# Altium integrated library Capacitors$.IntLib: 601 symbols (part 3 of 4)
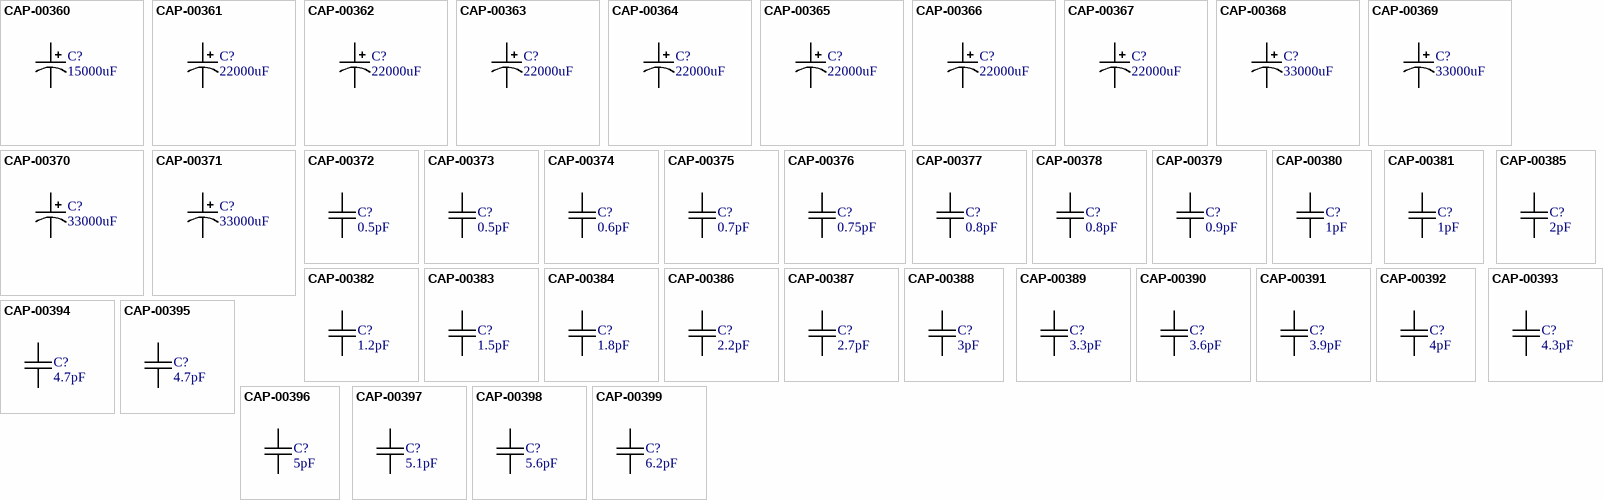
[diagram p17: symbols CAP-00360 to CAP-00399]

## CAP-00383
designator C?, comment 1.5pF
CAP, 1.5pF, ±0.1pF, 50V, C0G, 0603; Part Number: CAP-00383; Manufacturer: Murata; Manufacturer PN: GRM1885C1H1R5BA01D; Capacitance: 1.5pF; Tolerance: ±0.1pF; Voltage Rating: 50V; Type: C0G
footprint chip_0603
pins: 1, 2

## CAP-00384
designator C?, comment 1.8pF
CAP, 1.8pF, ±0.1pF, 50V, C0G, 0603; Part Number: CAP-00384; Manufacturer: Murata; Manufacturer PN: GRM1885C1H1R8BA01D; Capacitance: 1.8pF; Tolerance: ±0.1pF; Voltage Rating: 50V; Type: C0G
footprint chip_0603
pins: 1, 2

## CAP-00385
designator C?, comment 2pF
CAP, 2pF, ±0.1pF, 50V, C0G, 0603; Part Number: CAP-00385; Manufacturer: Murata; Manufacturer PN: GRM1885C1H2R0BA01D; Capacitance: 2pF; Tolerance: ±0.1pF; Voltage Rating: 50V; Type: C0G
footprint chip_0603
pins: 1, 2

## CAP-00386
designator C?, comment 2.2pF
CAP, 2.2pF, ±0.1pF, 50V, C0G, 0603; Part Number: CAP-00386; Manufacturer: Murata; Manufacturer PN: GRM1885C1H2R2BA01D; Capacitance: 2.2pF; Tolerance: ±0.1pF; Voltage Rating: 50V; Type: C0G
footprint chip_0603
pins: 1, 2

## CAP-00387
designator C?, comment 2.7pF
CAP, 2.7pF, ±0.1pF, 50V, C0G, 0603; Part Number: CAP-00387; Manufacturer: Murata; Manufacturer PN: GRM1885C1H2R7BA01D; Capacitance: 2.7pF; Tolerance: ±0.1pF; Voltage Rating: 50V; Type: C0G
footprint chip_0603
pins: 1, 2

## CAP-00388
designator C?, comment 3pF
CAP, 3pF, ±0.1pF, 50V, C0G, 0603; Part Number: CAP-00388; Manufacturer: Murata; Manufacturer PN: GRM1885C1H3R0BA01D; Capacitance: 3pF; Tolerance: ±0.1pF; Voltage Rating: 50V; Type: C0G
footprint chip_0603
pins: 1, 2

## CAP-00389
designator C?, comment 3.3pF
CAP, 3.3pF, ±0.1pF, 50V, C0G, 0603; Part Number: CAP-00389; Manufacturer: Murata; Manufacturer PN: GRM1885C1H3R3BA01D; Capacitance: 3.3pF; Tolerance: ±0.1pF; Voltage Rating: 50V; Type: C0G
footprint chip_0603
pins: 1, 2

## CAP-00390
designator C?, comment 3.6pF
CAP, 3.6pF, ±0.1pF, 50V, C0G, 0603; Part Number: CAP-00390; Manufacturer: Murata; Manufacturer PN: GRM1885C1H3R6BA01D; Capacitance: 3.6pF; Tolerance: ±0.1pF; Voltage Rating: 50V; Type: C0G
footprint chip_0603
pins: 1, 2

## CAP-00391
designator C?, comment 3.9pF
CAP, 3.9pF, ±0.1pF, 50V, C0G, 0603; Part Number: CAP-00391; Manufacturer: Murata; Manufacturer PN: GRM1885C1H3R9BA01D; Capacitance: 3.9pF; Tolerance: ±0.1pF; Voltage Rating: 50V; Type: C0G
footprint chip_0603
pins: 1, 2

## CAP-00392
designator C?, comment 4pF
CAP, 4pF, ±0.1pF, 50V, C0G, 0603; Part Number: CAP-00392; Manufacturer: Murata; Manufacturer PN: GRM1885C1H4R0BA01D; Capacitance: 4pF; Tolerance: ±0.1pF; Voltage Rating: 50V; Type: C0G
footprint chip_0603
pins: 1, 2

## CAP-00393
designator C?, comment 4.3pF
CAP, 4.3pF, ±0.1pF, 50V, C0G, 0603; Part Number: CAP-00393; Manufacturer: Murata; Manufacturer PN: GRM1885C1H4R3BA01D; Capacitance: 4.3pF; Tolerance: ±0.1pF; Voltage Rating: 50V; Type: C0G
footprint chip_0603
pins: 1, 2

## CAP-00394
designator C?, comment 4.7pF
CAP, 4.7pF, ±0.1pF, 100V, C0G, 0603; Part Number: CAP-00394; Manufacturer: Murata; Manufacturer PN: GRM1885C2A4R7BA01D; Capacitance: 4.7pF; Tolerance: ±0.1pF; Voltage Rating: 100V; Type: C0G
footprint chip_0603
pins: 1, 2

## CAP-00395
designator C?, comment 4.7pF
CAP, 4.7pF, ±0.1pF, 50V, C0G, 0603; Part Number: CAP-00395; Manufacturer: Murata; Manufacturer PN: GRM1885C1H4R7BA01D; Capacitance: 4.7pF; Tolerance: ±0.1pF; Voltage Rating: 50V; Type: C0G
footprint chip_0603
pins: 1, 2

## CAP-00396
designator C?, comment 5pF
CAP, 5pF, ±0.1pF, 50V, C0G, 0603; Part Number: CAP-00396; Manufacturer: Murata; Manufacturer PN: GRM1885C1H5R0BA01D; Capacitance: 5pF; Tolerance: ±0.1pF; Voltage Rating: 50V; Type: C0G
footprint chip_0603
pins: 1, 2

## CAP-00397
designator C?, comment 5.1pF
CAP, 5.1pF, ±0.1pF, 50V, C0G, 0603; Part Number: CAP-00397; Manufacturer: Murata; Manufacturer PN: GRM1885C1H5R1BA01D; Capacitance: 5.1pF; Tolerance: ±0.1pF; Voltage Rating: 50V; Type: C0G
footprint chip_0603
pins: 1, 2

## CAP-00398
designator C?, comment 5.6pF
CAP, 5.6pF, ±0.1pF, 50V, C0G, 0603; Part Number: CAP-00398; Manufacturer: Murata; Manufacturer PN: GRM1885C1H5R6BA01D; Capacitance: 5.6pF; Tolerance: ±0.1pF; Voltage Rating: 50V; Type: C0G
footprint chip_0603
pins: 1, 2

## CAP-00399
designator C?, comment 6.2pF
CAP, 6.2pF, ±0.1pF, 50V, C0G, 0603; Part Number: CAP-00399; Manufacturer: Murata; Manufacturer PN: GRM1885C1H6R2BA01D; Capacitance: 6.2pF; Tolerance: ±0.1pF; Voltage Rating: 50V; Type: C0G
footprint chip_0603
pins: 1, 2

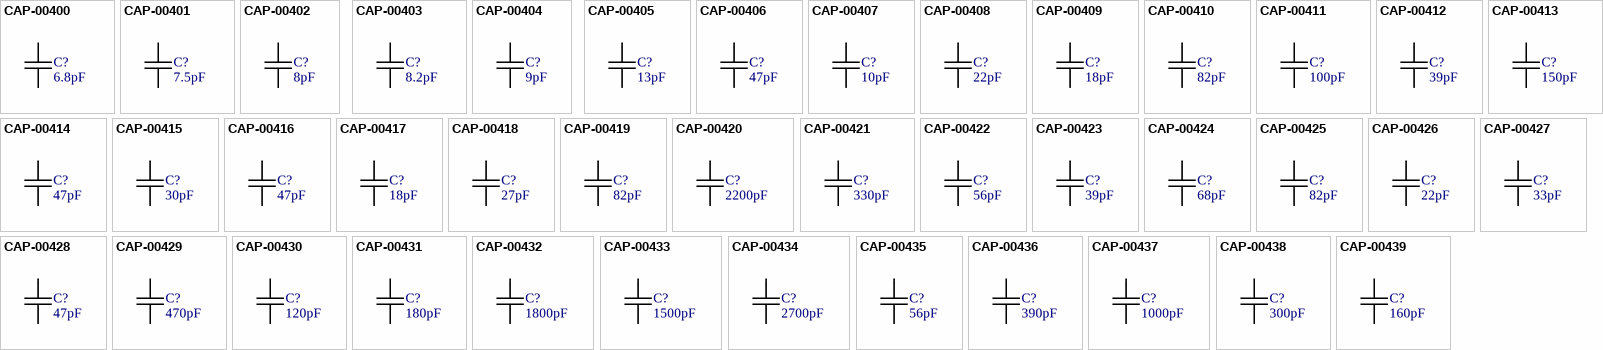
[diagram p10: symbols CAP-00400 to CAP-00439]

## CAP-00400
designator C?, comment 6.8pF
CAP, 6.8pF, ±0.1pF, 50V, C0G, 0603; Part Number: CAP-00400; Manufacturer: Murata; Manufacturer PN: GRM1885C1H6R8BA01D; Capacitance: 6.8pF; Tolerance: ±0.1pF; Voltage Rating: 50V; Type: C0G
footprint chip_0603
pins: 1, 2

## CAP-00401
designator C?, comment 7.5pF
CAP, 7.5pF, ±0.1pF, 50V, C0G, 0603; Part Number: CAP-00401; Manufacturer: Murata; Manufacturer PN: GRM1885C1H7R5BA01D; Capacitance: 7.5pF; Tolerance: ±0.1pF; Voltage Rating: 50V; Type: C0G
footprint chip_0603
pins: 1, 2

## CAP-00402
designator C?, comment 8pF
CAP, 8pF, ±0.1pF, 50V, C0G, 0603; Part Number: CAP-00402; Manufacturer: Murata; Manufacturer PN: GRM1885C1H8R0BA01D; Capacitance: 8pF; Tolerance: ±0.1pF; Voltage Rating: 50V; Type: C0G
footprint chip_0603
pins: 1, 2

## CAP-00403
designator C?, comment 8.2pF
CAP, 8.2pF, ±0.1pF, 50V, C0G, 0603; Part Number: CAP-00403; Manufacturer: Murata; Manufacturer PN: GRM1885C1H8R2BA01D; Capacitance: 8.2pF; Tolerance: ±0.1pF; Voltage Rating: 50V; Type: C0G
footprint chip_0603
pins: 1, 2

## CAP-00404
designator C?, comment 9pF
CAP, 9pF, ±0.1pF, 50V, C0G, 0603; Part Number: CAP-00404; Manufacturer: Murata; Manufacturer PN: GRM1885C1H9R0BA01D; Capacitance: 9pF; Tolerance: ±0.1pF; Voltage Rating: 50V; Type: C0G
footprint chip_0603
pins: 1, 2

## CAP-00405
designator C?, comment 13pF
CAP, 13pF, ±2%, 50V, C0G, 0603; Part Number: CAP-00405; Manufacturer: Murata; Manufacturer PN: GRM1885C1H130GA01D; Capacitance: 13pF; Tolerance: ±2%; Voltage Rating: 50V; Type: C0G
footprint chip_0603
pins: 1, 2

## CAP-00406
designator C?, comment 47pF
CAP, 47pF, ±2%, 50V, C0G, 0603; Part Number: CAP-00406; Manufacturer: Murata; Manufacturer PN: GRM1885C1H470GA01J; Capacitance: 47pF; Tolerance: ±2%; Voltage Rating: 50V; Type: C0G
footprint chip_0603
pins: 1, 2

## CAP-00407
designator C?, comment 10pF
CAP, 10pF, ±1%, 50V, C0G, 0603; Part Number: CAP-00407; Manufacturer: Murata; Manufacturer PN: GRM1885C1H100FA01D; Capacitance: 10pF; Tolerance: ±1%; Voltage Rating: 50V; Type: C0G
footprint chip_0603
pins: 1, 2

## CAP-00408
designator C?, comment 22pF
CAP, 22pF, ±2%, 50V, C0G, 0603; Part Number: CAP-00408; Manufacturer: Murata; Manufacturer PN: GRM1885C1H220GA01D; Capacitance: 22pF; Tolerance: ±2%; Voltage Rating: 50V; Type: C0G
footprint chip_0603
pins: 1, 2

## CAP-00409
designator C?, comment 18pF
CAP, 18pF, ±2%, 50V, C0G, 0603; Part Number: CAP-00409; Manufacturer: Murata; Manufacturer PN: GRM1885C1H180GA01D; Capacitance: 18pF; Tolerance: ±2%; Voltage Rating: 50V; Type: C0G
footprint chip_0603
pins: 1, 2

## CAP-00410
designator C?, comment 82pF
CAP, 82pF, ±2%, 50V, C0G, 0603; Part Number: CAP-00410; Manufacturer: Murata; Manufacturer PN: GRM1885C1H820GA01D; Capacitance: 82pF; Tolerance: ±2%; Voltage Rating: 50V; Type: C0G
footprint chip_0603
pins: 1, 2

## CAP-00411
designator C?, comment 100pF
CAP, 100pF, ±2%, 50V, C0G, 0603; Part Number: CAP-00411; Manufacturer: Murata; Manufacturer PN: GRM1885C1H101GA01D; Capacitance: 100pF; Tolerance: ±2%; Voltage Rating: 50V; Type: C0G
footprint chip_0603
pins: 1, 2

## CAP-00412
designator C?, comment 39pF
CAP, 39pF, ±2%, 50V, C0G, 0603; Part Number: CAP-00412; Manufacturer: Murata; Manufacturer PN: GRM1885C1H390GA01D; Capacitance: 39pF; Tolerance: ±2%; Voltage Rating: 50V; Type: C0G
footprint chip_0603
pins: 1, 2

## CAP-00413
designator C?, comment 150pF
CAP, 150pF, ±2%, 50V, C0G, 0603; Part Number: CAP-00413; Manufacturer: Murata; Manufacturer PN: GRM1885C1H151GA01D; Capacitance: 150pF; Tolerance: ±2%; Voltage Rating: 50V; Type: C0G
footprint chip_0603
pins: 1, 2

## CAP-00414
designator C?, comment 47pF
CAP, 47pF, ±2%, 50V, C0G, 0603; Part Number: CAP-00414; Manufacturer: Murata; Manufacturer PN: GRM1885C1H470GA01D; Capacitance: 47pF; Tolerance: ±2%; Voltage Rating: 50V; Type: C0G
footprint chip_0603
pins: 1, 2

## CAP-00415
designator C?, comment 30pF
CAP, 30pF, ±2%, 50V, C0G, 0603; Part Number: CAP-00415; Manufacturer: Murata; Manufacturer PN: GRM1885C1H300GA01D; Capacitance: 30pF; Tolerance: ±2%; Voltage Rating: 50V; Type: C0G
footprint chip_0603
pins: 1, 2

## CAP-00416
designator C?, comment 47pF
CAP, 47pF, ±1%, 50V, C0G, 0603; Part Number: CAP-00416; Manufacturer: Murata; Manufacturer PN: GRM1885C1H470FA01J; Capacitance: 47pF; Tolerance: ±1%; Voltage Rating: 50V; Type: C0G
footprint chip_0603
pins: 1, 2

## CAP-00417
designator C?, comment 18pF
CAP, 18pF, ±1%, 50V, C0G, 0603; Part Number: CAP-00417; Manufacturer: Murata; Manufacturer PN: GRM1885C1H180FA01J; Capacitance: 18pF; Tolerance: ±1%; Voltage Rating: 50V; Type: C0G
footprint chip_0603
pins: 1, 2

## CAP-00418
designator C?, comment 27pF
CAP, 27pF, ±1%, 50V, C0G, 0603; Part Number: CAP-00418; Manufacturer: Murata; Manufacturer PN: GRM1885C1H270FA01J; Capacitance: 27pF; Tolerance: ±1%; Voltage Rating: 50V; Type: C0G
footprint chip_0603
pins: 1, 2

## CAP-00419
designator C?, comment 82pF
CAP, 82pF, ±1%, 50V, C0G, 0603; Part Number: CAP-00419; Manufacturer: Murata; Manufacturer PN: GRM1885C1H820FA01J; Capacitance: 82pF; Tolerance: ±1%; Voltage Rating: 50V; Type: C0G
footprint chip_0603
pins: 1, 2

## CAP-00420
designator C?, comment 2200pF
CAP, 2200pF, ±2%, 50V, C0G, 0603; Part Number: CAP-00420; Manufacturer: Murata; Manufacturer PN: GRM1885C1H222GA01D; Capacitance: 2200pF; Tolerance: ±2%; Voltage Rating: 50V; Type: C0G
footprint chip_0603
pins: 1, 2

## CAP-00421
designator C?, comment 330pF
CAP, 330pF, ±2%, 50V, C0G, 0603; Part Number: CAP-00421; Manufacturer: Murata; Manufacturer PN: GRM1885C1H331GA01D; Capacitance: 330pF; Tolerance: ±2%; Voltage Rating: 50V; Type: C0G
footprint chip_0603
pins: 1, 2

## CAP-00422
designator C?, comment 56pF
CAP, 56pF, ±1%, 50V, C0G, 0603; Part Number: CAP-00422; Manufacturer: Murata; Manufacturer PN: GRM1885C1H560FA01D; Capacitance: 56pF; Tolerance: ±1%; Voltage Rating: 50V; Type: C0G
footprint chip_0603
pins: 1, 2

## CAP-00423
designator C?, comment 39pF
CAP, 39pF, ±1%, 50V, C0G, 0603; Part Number: CAP-00423; Manufacturer: Murata; Manufacturer PN: GRM1885C1H390FA01D; Capacitance: 39pF; Tolerance: ±1%; Voltage Rating: 50V; Type: C0G
footprint chip_0603
pins: 1, 2

## CAP-00424
designator C?, comment 68pF
CAP, 68pF, ±1%, 50V, C0G, 0603; Part Number: CAP-00424; Manufacturer: Murata; Manufacturer PN: GRM1885C1H680FA01D; Capacitance: 68pF; Tolerance: ±1%; Voltage Rating: 50V; Type: C0G
footprint chip_0603
pins: 1, 2

## CAP-00425
designator C?, comment 82pF
CAP, 82pF, ±1%, 50V, C0G, 0603; Part Number: CAP-00425; Manufacturer: Murata; Manufacturer PN: GRM1885C1H820FA01D; Capacitance: 82pF; Tolerance: ±1%; Voltage Rating: 50V; Type: C0G
footprint chip_0603
pins: 1, 2

## CAP-00426
designator C?, comment 22pF
CAP, 22pF, ±1%, 50V, C0G, 0603; Part Number: CAP-00426; Manufacturer: Murata; Manufacturer PN: GRM1885C1H220FA01D; Capacitance: 22pF; Tolerance: ±1%; Voltage Rating: 50V; Type: C0G
footprint chip_0603
pins: 1, 2

## CAP-00427
designator C?, comment 33pF
CAP, 33pF, ±1%, 50V, C0G, 0603; Part Number: CAP-00427; Manufacturer: Murata; Manufacturer PN: GRM1885C1H330FA01D; Capacitance: 33pF; Tolerance: ±1%; Voltage Rating: 50V; Type: C0G
footprint chip_0603
pins: 1, 2

## CAP-00428
designator C?, comment 47pF
CAP, 47pF, ±1%, 50V, C0G, 0603; Part Number: CAP-00428; Manufacturer: Murata; Manufacturer PN: GRM1885C1H470FA01D; Capacitance: 47pF; Tolerance: ±1%; Voltage Rating: 50V; Type: C0G
footprint chip_0603
pins: 1, 2

## CAP-00429
designator C?, comment 470pF
CAP, 470pF, ±2%, 50V, C0G, 0603; Part Number: CAP-00429; Manufacturer: Murata; Manufacturer PN: GRM1885C1H471GA01D; Capacitance: 470pF; Tolerance: ±2%; Voltage Rating: 50V; Type: C0G
footprint chip_0603
pins: 1, 2

## CAP-00430
designator C?, comment 120pF
CAP, 120pF, ±2%, 50V, C0G, 0603; Part Number: CAP-00430; Manufacturer: Murata; Manufacturer PN: GRM1885C1H121GA01D; Capacitance: 120pF; Tolerance: ±2%; Voltage Rating: 50V; Type: C0G
footprint chip_0603
pins: 1, 2

## CAP-00431
designator C?, comment 180pF
CAP, 180pF, ±2%, 50V, C0G, 0603; Part Number: CAP-00431; Manufacturer: Murata; Manufacturer PN: GRM1885C1H181GA01D; Capacitance: 180pF; Tolerance: ±2%; Voltage Rating: 50V; Type: C0G
footprint chip_0603
pins: 1, 2

## CAP-00432
designator C?, comment 1800pF
CAP, 1800pF, ±2%, 50V, C0G, 0603; Part Number: CAP-00432; Manufacturer: Murata; Manufacturer PN: GRM1885C1H182GA01D; Capacitance: 1800pF; Tolerance: ±2%; Voltage Rating: 50V; Type: C0G
footprint chip_0603
pins: 1, 2

## CAP-00433
designator C?, comment 1500pF
CAP, 1500pF, ±1%, 50V, C0G, 0603; Part Number: CAP-00433; Manufacturer: Murata; Manufacturer PN: GRM1885C1H152FA01D; Capacitance: 1500pF; Tolerance: ±1%; Voltage Rating: 50V; Type: C0G
footprint chip_0603
pins: 1, 2

## CAP-00434
designator C?, comment 2700pF
CAP, 2700pF, ±2%, 50V, C0G, 0603; Part Number: CAP-00434; Manufacturer: Murata; Manufacturer PN: GRM1885C1H272GA01D; Capacitance: 2700pF; Tolerance: ±2%; Voltage Rating: 50V; Type: C0G
footprint chip_0603
pins: 1, 2

## CAP-00435
designator C?, comment 56pF
CAP, 56pF, ±1%, 50V, C0G, 0603; Part Number: CAP-00435; Manufacturer: Murata; Manufacturer PN: GRM1885C1H560FA01J; Capacitance: 56pF; Tolerance: ±1%; Voltage Rating: 50V; Type: C0G
footprint chip_0603
pins: 1, 2

## CAP-00436
designator C?, comment 390pF
CAP, 390pF, ±2%, 50V, C0G, 0603; Part Number: CAP-00436; Manufacturer: Murata; Manufacturer PN: GRM1885C1H391GA01D; Capacitance: 390pF; Tolerance: ±2%; Voltage Rating: 50V; Type: C0G
footprint chip_0603
pins: 1, 2

## CAP-00437
designator C?, comment 1000pF
CAP, 1000pF, ±2%, 50V, C0G, 0603; Part Number: CAP-00437; Manufacturer: Murata; Manufacturer PN: GRM1885C1H102GA01J; Capacitance: 1000pF; Tolerance: ±2%; Voltage Rating: 50V; Type: C0G
footprint chip_0603
pins: 1, 2

## CAP-00438
designator C?, comment 300pF
CAP, 300pF, ±2%, 50V, C0G, 0603; Part Number: CAP-00438; Manufacturer: Murata; Manufacturer PN: GRM1885C1H301GA01D; Capacitance: 300pF; Tolerance: ±2%; Voltage Rating: 50V; Type: C0G
footprint chip_0603
pins: 1, 2

## CAP-00439
designator C?, comment 160pF
CAP, 160pF, ±2%, 50V, C0G, 0603; Part Number: CAP-00439; Manufacturer: Murata; Manufacturer PN: GRM1885C1H161GA01D; Capacitance: 160pF; Tolerance: ±2%; Voltage Rating: 50V; Type: C0G
footprint chip_0603
pins: 1, 2

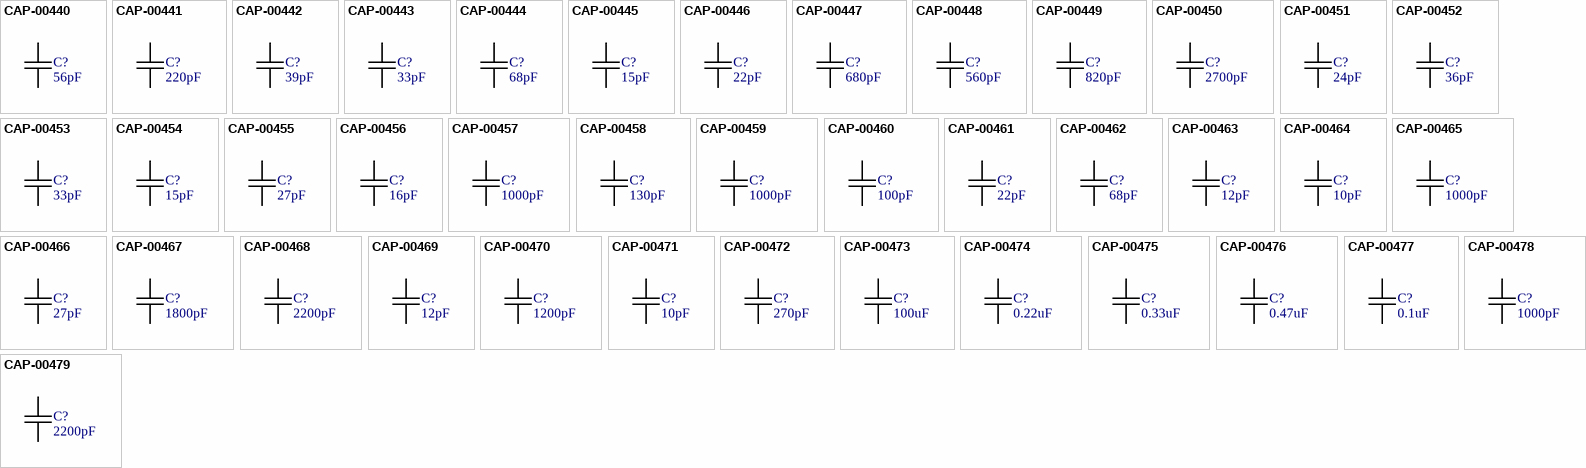
[diagram p11: symbols CAP-00440 to CAP-00479]

## CAP-00440
designator C?, comment 56pF
CAP, 56pF, ±2%, 50V, C0G, 0603; Part Number: CAP-00440; Manufacturer: Murata; Manufacturer PN: GRM1885C1H560GA01D; Capacitance: 56pF; Tolerance: ±2%; Voltage Rating: 50V; Type: C0G
footprint chip_0603
pins: 1, 2

## CAP-00441
designator C?, comment 220pF
CAP, 220pF, ±2%, 50V, C0G, 0603; Part Number: CAP-00441; Manufacturer: Murata; Manufacturer PN: GRM1885C1H221GA01D; Capacitance: 220pF; Tolerance: ±2%; Voltage Rating: 50V; Type: C0G
footprint chip_0603
pins: 1, 2

## CAP-00442
designator C?, comment 39pF
CAP, 39pF, ±1%, 50V, C0G, 0603; Part Number: CAP-00442; Manufacturer: Murata; Manufacturer PN: GRM1885C1H390FA01J; Capacitance: 39pF; Tolerance: ±1%; Voltage Rating: 50V; Type: C0G
footprint chip_0603
pins: 1, 2

## CAP-00443
designator C?, comment 33pF
CAP, 33pF, ±1%, 50V, C0G, 0603; Part Number: CAP-00443; Manufacturer: Murata; Manufacturer PN: GRM1885C1H330FA01J; Capacitance: 33pF; Tolerance: ±1%; Voltage Rating: 50V; Type: C0G
footprint chip_0603
pins: 1, 2

## CAP-00444
designator C?, comment 68pF
CAP, 68pF, ±1%, 50V, C0G, 0603; Part Number: CAP-00444; Manufacturer: Murata; Manufacturer PN: GRM1885C1H680FA01J; Capacitance: 68pF; Tolerance: ±1%; Voltage Rating: 50V; Type: C0G
footprint chip_0603
pins: 1, 2

## CAP-00445
designator C?, comment 15pF
CAP, 15pF, ±1%, 50V, C0G, 0603; Part Number: CAP-00445; Manufacturer: Murata; Manufacturer PN: GRM1885C1H150FA01J; Capacitance: 15pF; Tolerance: ±1%; Voltage Rating: 50V; Type: C0G
footprint chip_0603
pins: 1, 2

## CAP-00446
designator C?, comment 22pF
CAP, 22pF, ±1%, 50V, C0G, 0603; Part Number: CAP-00446; Manufacturer: Murata; Manufacturer PN: GRM1885C1H220FA01J; Capacitance: 22pF; Tolerance: ±1%; Voltage Rating: 50V; Type: C0G
footprint chip_0603
pins: 1, 2

## CAP-00447
designator C?, comment 680pF
CAP, 680pF, ±2%, 50V, C0G, 0603; Part Number: CAP-00447; Manufacturer: Murata; Manufacturer PN: GRM1885C1H681GA01D; Capacitance: 680pF; Tolerance: ±2%; Voltage Rating: 50V; Type: C0G
footprint chip_0603
pins: 1, 2

## CAP-00448
designator C?, comment 560pF
CAP, 560pF, ±2%, 50V, C0G, 0603; Part Number: CAP-00448; Manufacturer: Murata; Manufacturer PN: GRM1885C1H561GA01D; Capacitance: 560pF; Tolerance: ±2%; Voltage Rating: 50V; Type: C0G
footprint chip_0603
pins: 1, 2

## CAP-00449
designator C?, comment 820pF
CAP, 820pF, ±2%, 50V, C0G, 0603; Part Number: CAP-00449; Manufacturer: Murata; Manufacturer PN: GRM1885C1H821GA01J; Capacitance: 820pF; Tolerance: ±2%; Voltage Rating: 50V; Type: C0G
footprint chip_0603
pins: 1, 2

## CAP-00450
designator C?, comment 2700pF
CAP, 2700pF, ±2%, 50V, C0G, 0603; Part Number: CAP-00450; Manufacturer: Murata; Manufacturer PN: GRM1885C1H272GA01J; Capacitance: 2700pF; Tolerance: ±2%; Voltage Rating: 50V; Type: C0G
footprint chip_0603
pins: 1, 2

## CAP-00451
designator C?, comment 24pF
CAP, 24pF, ±2%, 50V, C0G, 0603; Part Number: CAP-00451; Manufacturer: Murata; Manufacturer PN: GRM1885C1H240GA01D; Capacitance: 24pF; Tolerance: ±2%; Voltage Rating: 50V; Type: C0G
footprint chip_0603
pins: 1, 2

## CAP-00452
designator C?, comment 36pF
CAP, 36pF, ±2%, 50V, C0G, 0603; Part Number: CAP-00452; Manufacturer: Murata; Manufacturer PN: GRM1885C1H360GA01D; Capacitance: 36pF; Tolerance: ±2%; Voltage Rating: 50V; Type: C0G
footprint chip_0603
pins: 1, 2

## CAP-00453
designator C?, comment 33pF
CAP, 33pF, ±2%, 50V, C0G, 0603; Part Number: CAP-00453; Manufacturer: Murata; Manufacturer PN: GRM1885C1H330GA01D; Capacitance: 33pF; Tolerance: ±2%; Voltage Rating: 50V; Type: C0G
footprint chip_0603
pins: 1, 2

## CAP-00454
designator C?, comment 15pF
CAP, 15pF, ±2%, 50V, C0G, 0603; Part Number: CAP-00454; Manufacturer: Murata; Manufacturer PN: GRM1885C1H150GA01D; Capacitance: 15pF; Tolerance: ±2%; Voltage Rating: 50V; Type: C0G
footprint chip_0603
pins: 1, 2

## CAP-00455
designator C?, comment 27pF
CAP, 27pF, ±2%, 50V, C0G, 0603; Part Number: CAP-00455; Manufacturer: Murata; Manufacturer PN: GRM1885C1H270GA01D; Capacitance: 27pF; Tolerance: ±2%; Voltage Rating: 50V; Type: C0G
footprint chip_0603
pins: 1, 2

## CAP-00456
designator C?, comment 16pF
CAP, 16pF, ±2%, 50V, C0G, 0603; Part Number: CAP-00456; Manufacturer: Murata; Manufacturer PN: GRM1885C1H160GA01D; Capacitance: 16pF; Tolerance: ±2%; Voltage Rating: 50V; Type: C0G
footprint chip_0603
pins: 1, 2

## CAP-00457
designator C?, comment 1000pF
CAP, 1000pF, ±1%, 50V, C0G, 0603; Part Number: CAP-00457; Manufacturer: Murata; Manufacturer PN: GRM1885C1H102FA01D; Capacitance: 1000pF; Tolerance: ±1%; Voltage Rating: 50V; Type: C0G
footprint chip_0603
pins: 1, 2

## CAP-00458
designator C?, comment 130pF
CAP, 130pF, ±2%, 50V, C0G, 0603; Part Number: CAP-00458; Manufacturer: Murata; Manufacturer PN: GRM1885C1H131GA01D; Capacitance: 130pF; Tolerance: ±2%; Voltage Rating: 50V; Type: C0G
footprint chip_0603
pins: 1, 2

## CAP-00459
designator C?, comment 1000pF
CAP, 1000pF, ±1%, 50V, C0G, 0603; Part Number: CAP-00459; Manufacturer: Murata; Manufacturer PN: GRM1885C1H102FA01J; Capacitance: 1000pF; Tolerance: ±1%; Voltage Rating: 50V; Type: C0G
footprint chip_0603
pins: 1, 2

## CAP-00460
designator C?, comment 100pF
CAP, 100pF, ±2%, 50V, C0G, 0603; Part Number: CAP-00460; Manufacturer: Murata; Manufacturer PN: GRM1885C1H101GA01J; Capacitance: 100pF; Tolerance: ±2%; Voltage Rating: 50V; Type: C0G
footprint chip_0603
pins: 1, 2

## CAP-00461
designator C?, comment 22pF
CAP, 22pF, ±2%, 50V, C0G, 0603; Part Number: CAP-00461; Manufacturer: Murata; Manufacturer PN: GRM1885C1H220GA01J; Capacitance: 22pF; Tolerance: ±2%; Voltage Rating: 50V; Type: C0G
footprint chip_0603
pins: 1, 2

## CAP-00462
designator C?, comment 68pF
CAP, 68pF, ±2%, 50V, C0G, 0603; Part Number: CAP-00462; Manufacturer: Murata; Manufacturer PN: GRM1885C1H680GA01D; Capacitance: 68pF; Tolerance: ±2%; Voltage Rating: 50V; Type: C0G
footprint chip_0603
pins: 1, 2

## CAP-00463
designator C?, comment 12pF
CAP, 12pF, ±2%, 50V, C0G, 0603; Part Number: CAP-00463; Manufacturer: Murata; Manufacturer PN: GRM1885C1H120GA01D; Capacitance: 12pF; Tolerance: ±2%; Voltage Rating: 50V; Type: C0G
footprint chip_0603
pins: 1, 2

## CAP-00464
designator C?, comment 10pF
CAP, 10pF, ±1%, 50V, C0G, 0603; Part Number: CAP-00464; Manufacturer: Murata; Manufacturer PN: GRM1885C1H100FA01J; Capacitance: 10pF; Tolerance: ±1%; Voltage Rating: 50V; Type: C0G
footprint chip_0603
pins: 1, 2

## CAP-00465
designator C?, comment 1000pF
CAP, 1000pF, ±2%, 50V, C0G, 0603; Part Number: CAP-00465; Manufacturer: Murata; Manufacturer PN: GRM1885C1H102GA01D; Capacitance: 1000pF; Tolerance: ±2%; Voltage Rating: 50V; Type: C0G
footprint chip_0603
pins: 1, 2

## CAP-00466
designator C?, comment 27pF
CAP, 27pF, ±1%, 50V, C0G, 0603; Part Number: CAP-00466; Manufacturer: Murata; Manufacturer PN: GRM1885C1H270FA01D; Capacitance: 27pF; Tolerance: ±1%; Voltage Rating: 50V; Type: C0G
footprint chip_0603
pins: 1, 2

## CAP-00467
designator C?, comment 1800pF
CAP, 1800pF, ±1%, 50V, C0G, 0603; Part Number: CAP-00467; Manufacturer: Murata; Manufacturer PN: GRM1885C1H182FA01D; Capacitance: 1800pF; Tolerance: ±1%; Voltage Rating: 50V; Type: C0G
footprint chip_0603
pins: 1, 2

## CAP-00468
designator C?, comment 2200pF
CAP, 2200pF, ±1%, 50V, C0G, 0603; Part Number: CAP-00468; Manufacturer: Murata; Manufacturer PN: GRM1885C1H222FA01D; Capacitance: 2200pF; Tolerance: ±1%; Voltage Rating: 50V; Type: C0G
footprint chip_0603
pins: 1, 2

## CAP-00469
designator C?, comment 12pF
CAP, 12pF, ±1%, 50V, C0G, 0603; Part Number: CAP-00469; Manufacturer: Murata; Manufacturer PN: GRM1885C1H120FA01D; Capacitance: 12pF; Tolerance: ±1%; Voltage Rating: 50V; Type: C0G
footprint chip_0603
pins: 1, 2

## CAP-00470
designator C?, comment 1200pF
CAP, 1200pF, ±1%, 50V, C0G, 0603; Part Number: CAP-00470; Manufacturer: Murata; Manufacturer PN: GRM1885C1H122FA01D; Capacitance: 1200pF; Tolerance: ±1%; Voltage Rating: 50V; Type: C0G
footprint chip_0603
pins: 1, 2

## CAP-00471
designator C?, comment 10pF
CAP, 10pF, ±2%, 50V, C0G, 0603; Part Number: CAP-00471; Manufacturer: Murata; Manufacturer PN: GRM1885C1H100GA01D; Capacitance: 10pF; Tolerance: ±2%; Voltage Rating: 50V; Type: C0G
footprint chip_0603
pins: 1, 2

## CAP-00472
designator C?, comment 270pF
CAP, 270pF, ±2%, 50V, C0G, 0603; Part Number: CAP-00472; Manufacturer: Murata; Manufacturer PN: GRM1885C1H271GA01D; Capacitance: 270pF; Tolerance: ±2%; Voltage Rating: 50V; Type: C0G
footprint chip_0603
pins: 1, 2

## CAP-00473
designator C?, comment 100uF
CAP, 100uF, ±20%, 16V, X5R, 0603; Part Number: CAP-00473; Manufacturer: Taiyo Yuden; Manufacturer PN: EMK325ABJ107MM-T; Capacitance: 100uF; Tolerance: ±20%; Voltage Rating: 16V; Type: X5R
footprint chip_1210
pins: 1, 2

## CAP-00474
designator C?, comment 0.22uF
CAP, 0.22uF, ±10%, 10V, X7R, 0603; Part Number: CAP-00474; Manufacturer: Murata; Manufacturer PN: GRM188R71A224KA01D; Capacitance: 0.22uF; Tolerance: ±10%; Voltage Rating: 10V; Type: X7R
footprint chip_0603
pins: 1, 2

## CAP-00475
designator C?, comment 0.33uF
CAP, 0.33uF, ±10%, 16V, X7R, 0603; Part Number: CAP-00475; Manufacturer: Murata; Manufacturer PN: GRM188R71C334KA01D; Capacitance: 0.33uF; Tolerance: ±10%; Voltage Rating: 16V; Type: X7R
footprint chip_0603
pins: 1, 2

## CAP-00476
designator C?, comment 0.47uF
CAP, 0.47uF, ±10%, 25V, X7R, 0603; Part Number: CAP-00476; Manufacturer: Murata; Manufacturer PN: GRM188R71E474KA12D; Capacitance: 0.47uF; Tolerance: ±10%; Voltage Rating: 25V; Type: X7R
footprint chip_0603
pins: 1, 2

## CAP-00477
designator C?, comment 0.1uF
CAP, 0.1uF, ±10%, 100V, X7R, 0603; Part Number: CAP-00477; Manufacturer: Murata; Manufacturer PN: GRM188R72A104KA35D; Capacitance: 0.1uF; Tolerance: ±10%; Voltage Rating: 100V; Type: X7R
footprint chip_0603
pins: 1, 2

## CAP-00478
designator C?, comment 1000pF
CAP, 1000pF, ±10%, 250V, X7R, 0603; Part Number: CAP-00478; Manufacturer: Murata; Manufacturer PN: GRM188R72E102KW07D; Capacitance: 1000pF; Tolerance: ±10%; Voltage Rating: 250V; Type: X7R
footprint chip_0603
pins: 1, 2

## CAP-00479
designator C?, comment 2200pF
CAP, 2200pF, ±10%, 250V, X7R, 0603; Part Number: CAP-00479; Manufacturer: Murata; Manufacturer PN: GRM188R72E222KW07D; Capacitance: 2200pF; Tolerance: ±10%; Voltage Rating: 250V; Type: X7R
footprint chip_0603
pins: 1, 2

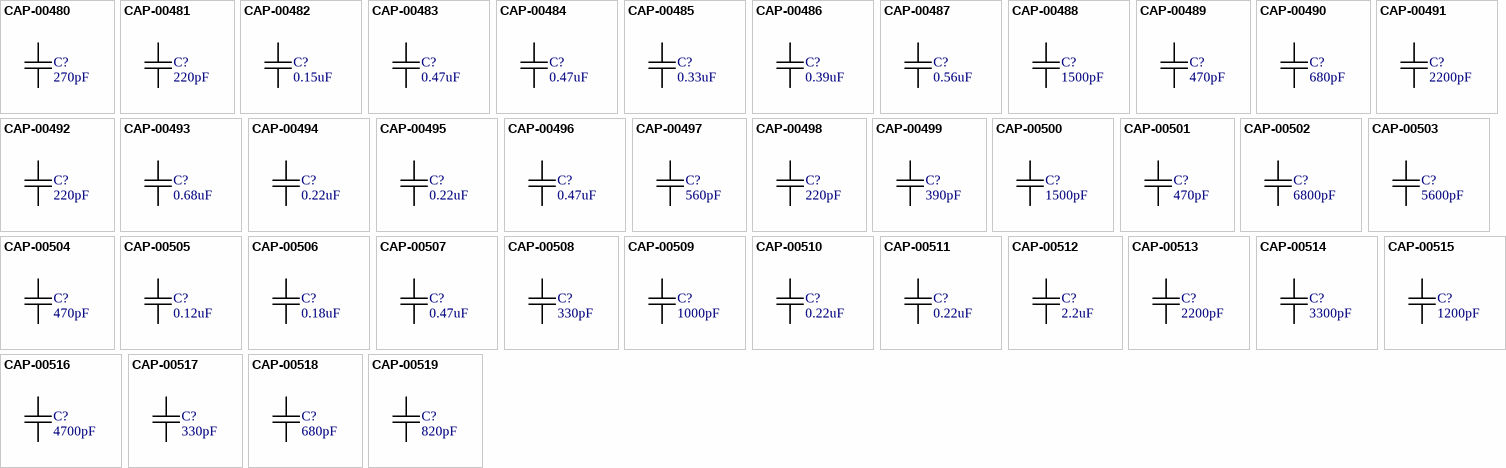
[diagram p12: symbols CAP-00480 to CAP-00519]

## CAP-00480
designator C?, comment 270pF
CAP, 270pF, ±10%, 100V, X7R, 0603; Part Number: CAP-00480; Manufacturer: Murata; Manufacturer PN: GRM188R72A271KA01D; Capacitance: 270pF; Tolerance: ±10%; Voltage Rating: 100V; Type: X7R
footprint chip_0603
pins: 1, 2

## CAP-00481
designator C?, comment 220pF
CAP, 220pF, ±10%, 250V, X7R, 0603; Part Number: CAP-00481; Manufacturer: Murata; Manufacturer PN: GRM188R72E221KW07D; Capacitance: 220pF; Tolerance: ±10%; Voltage Rating: 250V; Type: X7R
footprint chip_0603
pins: 1, 2

## CAP-00482
designator C?, comment 0.15uF
CAP, 0.15uF, ±10%, 16V, X7R, 0603; Part Number: CAP-00482; Manufacturer: Murata; Manufacturer PN: GRM188R71C154KA01D; Capacitance: 0.15uF; Tolerance: ±10%; Voltage Rating: 16V; Type: X7R
footprint chip_0603
pins: 1, 2

## CAP-00483
designator C?, comment 0.47uF
CAP, 0.47uF, ±10%, 6.3V, X7R, 0603; Part Number: CAP-00483; Manufacturer: Murata; Manufacturer PN: GRM188R70J474KA01D; Capacitance: 0.47uF; Tolerance: ±10%; Voltage Rating: 6.3V; Type: X7R
footprint chip_0603
pins: 1, 2

## CAP-00484
designator C?, comment 0.47uF
CAP, 0.47uF, ±10%, 10V, X7R, 0603; Part Number: CAP-00484; Manufacturer: Murata; Manufacturer PN: GRM188R71A474KA61D; Capacitance: 0.47uF; Tolerance: ±10%; Voltage Rating: 10V; Type: X7R
footprint chip_0603
pins: 1, 2

## CAP-00485
designator C?, comment 0.33uF
CAP, 0.33uF, ±10%, 10V, X7R, 0603; Part Number: CAP-00485; Manufacturer: Murata; Manufacturer PN: GRM188R71A334KA61D; Capacitance: 0.33uF; Tolerance: ±10%; Voltage Rating: 10V; Type: X7R
footprint chip_0603
pins: 1, 2

## CAP-00486
designator C?, comment 0.39uF
CAP, 0.39uF, ±10%, 16V, X7R, 0603; Part Number: CAP-00486; Manufacturer: Murata; Manufacturer PN: GRM188R71C394KA88D; Capacitance: 0.39uF; Tolerance: ±10%; Voltage Rating: 16V; Type: X7R
footprint chip_0603
pins: 1, 2

## CAP-00487
designator C?, comment 0.56uF
CAP, 0.56uF, ±10%, 10V, X7R, 0603; Part Number: CAP-00487; Manufacturer: Murata; Manufacturer PN: GRM188R71A564KA61D; Capacitance: 0.56uF; Tolerance: ±10%; Voltage Rating: 10V; Type: X7R
footprint chip_0603
pins: 1, 2

## CAP-00488
designator C?, comment 1500pF
CAP, 1500pF, ±10%, 250V, X7R, 0603; Part Number: CAP-00488; Manufacturer: Murata; Manufacturer PN: GRM188R72E152KW07D; Capacitance: 1500pF; Tolerance: ±10%; Voltage Rating: 250V; Type: X7R
footprint chip_0603
pins: 1, 2

## CAP-00489
designator C?, comment 470pF
CAP, 470pF, ±10%, 250V, X7R, 0603; Part Number: CAP-00489; Manufacturer: Murata; Manufacturer PN: GRM188R72E471KW07D; Capacitance: 470pF; Tolerance: ±10%; Voltage Rating: 250V; Type: X7R
footprint chip_0603
pins: 1, 2

## CAP-00490
designator C?, comment 680pF
CAP, 680pF, ±10%, 250V, X7R, 0603; Part Number: CAP-00490; Manufacturer: Murata; Manufacturer PN: GRM188R72E681KW07D; Capacitance: 680pF; Tolerance: ±10%; Voltage Rating: 250V; Type: X7R
footprint chip_0603
pins: 1, 2

## CAP-00491
designator C?, comment 2200pF
CAP, 2200pF, ±10%, 200V, X7R, 0603; Part Number: CAP-00491; Manufacturer: Murata; Manufacturer PN: GRM188R72D222KW07D; Capacitance: 2200pF; Tolerance: ±10%; Voltage Rating: 200V; Type: X7R
footprint chip_0603
pins: 1, 2

## CAP-00492
designator C?, comment 220pF
CAP, 220pF, ±10%, 100V, X7R, 0603; Part Number: CAP-00492; Manufacturer: Murata; Manufacturer PN: GRM188R72A221KA01D; Capacitance: 220pF; Tolerance: ±10%; Voltage Rating: 100V; Type: X7R
footprint chip_0603
pins: 1, 2

## CAP-00493
designator C?, comment 0.68uF
CAP, 0.68uF, ±10%, 10V, X7R, 0603; Part Number: CAP-00493; Manufacturer: Murata; Manufacturer PN: GRM188R71A684KA61D; Capacitance: 0.68uF; Tolerance: ±10%; Voltage Rating: 10V; Type: X7R
footprint chip_0603
pins: 1, 2

## CAP-00494
designator C?, comment 0.22uF
CAP, 0.22uF, ±10%, 16V, X7R, 0603; Part Number: CAP-00494; Manufacturer: Murata; Manufacturer PN: GRM188R71C224KA01J; Capacitance: 0.22uF; Tolerance: ±10%; Voltage Rating: 16V; Type: X7R
footprint chip_0603
pins: 1, 2

## CAP-00495
designator C?, comment 0.22uF
CAP, 0.22uF, ±10%, 6.3V, X7R, 0603; Part Number: CAP-00495; Manufacturer: Murata; Manufacturer PN: GRM188R70J224KA88D; Capacitance: 0.22uF; Tolerance: ±10%; Voltage Rating: 6.3V; Type: X7R
footprint chip_0603
pins: 1, 2

## CAP-00496
designator C?, comment 0.47uF
CAP, 0.47uF, ±10%, 25V, X7R, 0603; Part Number: CAP-00496; Manufacturer: Murata; Manufacturer PN: GRM188R71E474KA12J; Capacitance: 0.47uF; Tolerance: ±10%; Voltage Rating: 25V; Type: X7R
footprint chip_0603
pins: 1, 2

## CAP-00497
designator C?, comment 560pF
CAP, 560pF, ±10%, 100V, X7R, 0603; Part Number: CAP-00497; Manufacturer: Murata; Manufacturer PN: GRM188R72A561KA01D; Capacitance: 560pF; Tolerance: ±10%; Voltage Rating: 100V; Type: X7R
footprint chip_0603
pins: 1, 2

## CAP-00498
designator C?, comment 220pF
CAP, 220pF, ±10%, 200V, X7R, 0603; Part Number: CAP-00498; Manufacturer: Murata; Manufacturer PN: GRM188R72D221KW07D; Capacitance: 220pF; Tolerance: ±10%; Voltage Rating: 200V; Type: X7R
footprint chip_0603
pins: 1, 2

## CAP-00499
designator C?, comment 390pF
CAP, 390pF, ±10%, 100V, X7R, 0603; Part Number: CAP-00499; Manufacturer: Murata; Manufacturer PN: GRM188R72A391KA01D; Capacitance: 390pF; Tolerance: ±10%; Voltage Rating: 100V; Type: X7R
footprint chip_0603
pins: 1, 2

## CAP-00500
designator C?, comment 1500pF
CAP, 1500pF, ±10%, 100V, X7R, 0603; Part Number: CAP-00500; Manufacturer: Murata; Manufacturer PN: GRM188R72A152KA01D; Capacitance: 1500pF; Tolerance: ±10%; Voltage Rating: 100V; Type: X7R
footprint chip_0603
pins: 1, 2

## CAP-00501
designator C?, comment 470pF
CAP, 470pF, ±10%, 100V, X7R, 0603; Part Number: CAP-00501; Manufacturer: Murata; Manufacturer PN: GRM188R72A471KA01D; Capacitance: 470pF; Tolerance: ±10%; Voltage Rating: 100V; Type: X7R
footprint chip_0603
pins: 1, 2

## CAP-00502
designator C?, comment 6800pF
CAP, 6800pF, ±10%, 100V, X7R, 0603; Part Number: CAP-00502; Manufacturer: Murata; Manufacturer PN: GRM188R72A682KA01D; Capacitance: 6800pF; Tolerance: ±10%; Voltage Rating: 100V; Type: X7R
footprint chip_0603
pins: 1, 2

## CAP-00503
designator C?, comment 5600pF
CAP, 5600pF, ±10%, 100V, X7R, 0603; Part Number: CAP-00503; Manufacturer: Murata; Manufacturer PN: GRM188R72A562KA01D; Capacitance: 5600pF; Tolerance: ±10%; Voltage Rating: 100V; Type: X7R
footprint chip_0603
pins: 1, 2

## CAP-00504
designator C?, comment 470pF
CAP, 470pF, ±10%, 200V, X7R, 0603; Part Number: CAP-00504; Manufacturer: Murata; Manufacturer PN: GRM188R72D471KW07D; Capacitance: 470pF; Tolerance: ±10%; Voltage Rating: 200V; Type: X7R
footprint chip_0603
pins: 1, 2

## CAP-00505
designator C?, comment 0.12uF
CAP, 0.12uF, ±10%, 25V, X7R, 0603; Part Number: CAP-00505; Manufacturer: Murata; Manufacturer PN: GRM188R71E124KA01D; Capacitance: 0.12uF; Tolerance: ±10%; Voltage Rating: 25V; Type: X7R
footprint chip_0603
pins: 1, 2

## CAP-00506
designator C?, comment 0.18uF
CAP, 0.18uF, ±10%, 10V, X7R, 0603; Part Number: CAP-00506; Manufacturer: Murata; Manufacturer PN: GRM188R71A184KA01D; Capacitance: 0.18uF; Tolerance: ±10%; Voltage Rating: 10V; Type: X7R
footprint chip_0603
pins: 1, 2

## CAP-00507
designator C?, comment 0.47uF
CAP, 0.47uF, ±10%, 16V, X7R, 0603; Part Number: CAP-00507; Manufacturer: Murata; Manufacturer PN: GRM188R71C474KA88D; Capacitance: 0.47uF; Tolerance: ±10%; Voltage Rating: 16V; Type: X7R
footprint chip_0603
pins: 1, 2

## CAP-00508
designator C?, comment 330pF
CAP, 330pF, ±10%, 250V, X7R, 0603; Part Number: CAP-00508; Manufacturer: Murata; Manufacturer PN: GRM188R72E331KW07D; Capacitance: 330pF; Tolerance: ±10%; Voltage Rating: 250V; Type: X7R
footprint chip_0603
pins: 1, 2

## CAP-00509
designator C?, comment 1000pF
CAP, 1000pF, ±10%, 100V, X7R, 0603; Part Number: CAP-00509; Manufacturer: Murata; Manufacturer PN: GRM188R72A102KA01D; Capacitance: 1000pF; Tolerance: ±10%; Voltage Rating: 100V; Type: X7R
footprint chip_0603
pins: 1, 2

## CAP-00510
designator C?, comment 0.22uF
CAP, 0.22uF, ±10%, 16V, X7R, 0603; Part Number: CAP-00510; Manufacturer: Murata; Manufacturer PN: GRM188R71C224KA01D; Capacitance: 0.22uF; Tolerance: ±10%; Voltage Rating: 16V; Type: X7R
footprint chip_0603
pins: 1, 2

## CAP-00511
designator C?, comment 0.22uF
CAP, 0.22uF, ±10%, 25V, X7R, 0603; Part Number: CAP-00511; Manufacturer: Murata; Manufacturer PN: GRM188R71E224KA88D; Capacitance: 0.22uF; Tolerance: ±10%; Voltage Rating: 25V; Type: X7R
footprint chip_0603
pins: 1, 2

## CAP-00512
designator C?, comment 2.2uF
CAP, 2.2uF, ±10%, 10V, X7R, 0603; Part Number: CAP-00512; Manufacturer: Murata; Manufacturer PN: GRM188R71A225KE15D; Capacitance: 2.2uF; Tolerance: ±10%; Voltage Rating: 10V; Type: X7R
footprint chip_0603
pins: 1, 2

## CAP-00513
designator C?, comment 2200pF
CAP, 2200pF, ±10%, 100V, X7R, 0603; Part Number: CAP-00513; Manufacturer: Murata; Manufacturer PN: GRM188R72A222KA01D; Capacitance: 2200pF; Tolerance: ±10%; Voltage Rating: 100V; Type: X7R
footprint chip_0603
pins: 1, 2

## CAP-00514
designator C?, comment 3300pF
CAP, 3300pF, ±10%, 100V, X7R, 0603; Part Number: CAP-00514; Manufacturer: Murata; Manufacturer PN: GRM188R72A332KA01D; Capacitance: 3300pF; Tolerance: ±10%; Voltage Rating: 100V; Type: X7R
footprint chip_0603
pins: 1, 2

## CAP-00515
designator C?, comment 1200pF
CAP, 1200pF, ±10%, 100V, X7R, 0603; Part Number: CAP-00515; Manufacturer: Murata; Manufacturer PN: GRM188R72A122KA01D; Capacitance: 1200pF; Tolerance: ±10%; Voltage Rating: 100V; Type: X7R
footprint chip_0603
pins: 1, 2

## CAP-00516
designator C?, comment 4700pF
CAP, 4700pF, ±10%, 100V, X7R, 0603; Part Number: CAP-00516; Manufacturer: Murata; Manufacturer PN: GRM188R72A472KA01D; Capacitance: 4700pF; Tolerance: ±10%; Voltage Rating: 100V; Type: X7R
footprint chip_0603
pins: 1, 2

## CAP-00517
designator C?, comment 330pF
CAP, 330pF, ±10%, 100V, X7R, 0603; Part Number: CAP-00517; Manufacturer: Murata; Manufacturer PN: GRM188R72A331KA01D; Capacitance: 330pF; Tolerance: ±10%; Voltage Rating: 100V; Type: X7R
footprint chip_0603
pins: 1, 2

## CAP-00518
designator C?, comment 680pF
CAP, 680pF, ±10%, 100V, X7R, 0603; Part Number: CAP-00518; Manufacturer: Murata; Manufacturer PN: GRM188R72A681KA01D; Capacitance: 680pF; Tolerance: ±10%; Voltage Rating: 100V; Type: X7R
footprint chip_0603
pins: 1, 2

## CAP-00519
designator C?, comment 820pF
CAP, 820pF, ±10%, 100V, X7R, 0603; Part Number: CAP-00519; Manufacturer: Murata; Manufacturer PN: GRM188R72A821KA01D; Capacitance: 820pF; Tolerance: ±10%; Voltage Rating: 100V; Type: X7R
footprint chip_0603
pins: 1, 2

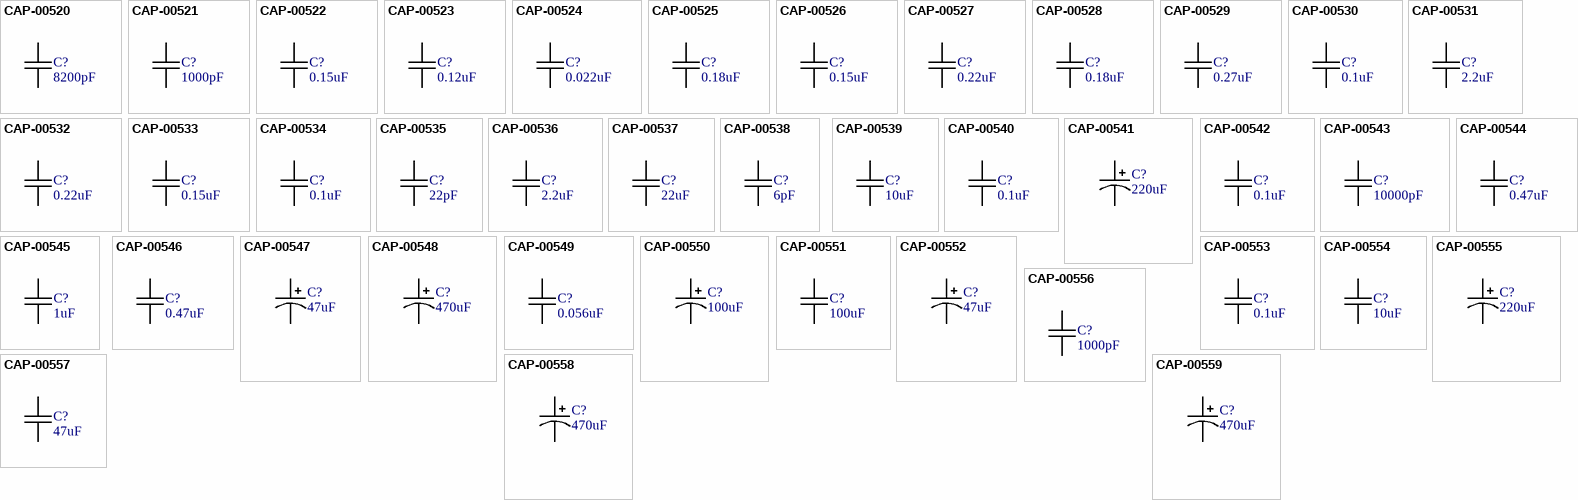
[diagram p13: symbols CAP-00520 to CAP-00559]

## CAP-00520
designator C?, comment 8200pF
CAP, 8200pF, ±10%, 100V, X7R, 0603; Part Number: CAP-00520; Manufacturer: Murata; Manufacturer PN: GRM188R72A822KA01D; Capacitance: 8200pF; Tolerance: ±10%; Voltage Rating: 100V; Type: X7R
footprint chip_0603
pins: 1, 2

## CAP-00521
designator C?, comment 1000pF
CAP, 1000pF, ±10%, 200V, X7R, 0603; Part Number: CAP-00521; Manufacturer: Murata; Manufacturer PN: GRM188R72D102KW07D; Capacitance: 1000pF; Tolerance: ±10%; Voltage Rating: 200V; Type: X7R
footprint chip_0603
pins: 1, 2

## CAP-00522
designator C?, comment 0.15uF
CAP, 0.15uF, ±10%, 10V, X7R, 0603; Part Number: CAP-00522; Manufacturer: Murata; Manufacturer PN: GRM188R71A154KA01D; Capacitance: 0.15uF; Tolerance: ±10%; Voltage Rating: 10V; Type: X7R
footprint chip_0603
pins: 1, 2

## CAP-00523
designator C?, comment 0.12uF
CAP, 0.12uF, ±10%, 16V, X7R, 0603; Part Number: CAP-00523; Manufacturer: Murata; Manufacturer PN: GRM188R71C124KA01D; Capacitance: 0.12uF; Tolerance: ±10%; Voltage Rating: 16V; Type: X7R
footprint chip_0603
pins: 1, 2

## CAP-00524
designator C?, comment 0.022uF
CAP, 0.022uF, ±10%, 100V, X7R, 0603; Part Number: CAP-00524; Manufacturer: Murata; Manufacturer PN: GRM188R72A223KAC4D; Capacitance: 0.022uF; Tolerance: ±10%; Voltage Rating: 100V; Type: X7R
footprint chip_0603
pins: 1, 2

## CAP-00525
designator C?, comment 0.18uF
CAP, 0.18uF, ±10%, 16V, X7R, 0603; Part Number: CAP-00525; Manufacturer: Murata; Manufacturer PN: GRM188R71C184KA01D; Capacitance: 0.18uF; Tolerance: ±10%; Voltage Rating: 16V; Type: X7R
footprint chip_0603
pins: 1, 2

## CAP-00526
designator C?, comment 0.15uF
CAP, 0.15uF, ±10%, 25V, X7R, 0603; Part Number: CAP-00526; Manufacturer: Murata; Manufacturer PN: GRM188R71E154KA01D; Capacitance: 0.15uF; Tolerance: ±10%; Voltage Rating: 25V; Type: X7R
footprint chip_0603
pins: 1, 2

## CAP-00527
designator C?, comment 0.22uF
CAP, 0.22uF, ±10%, 10V, X7R, 0603; Part Number: CAP-00527; Manufacturer: Murata; Manufacturer PN: GRM188R71A224KA01J; Capacitance: 0.22uF; Tolerance: ±10%; Voltage Rating: 10V; Type: X7R
footprint chip_0603
pins: 1, 2

## CAP-00528
designator C?, comment 0.18uF
CAP, 0.18uF, ±10%, 25V, X7R, 0603; Part Number: CAP-00528; Manufacturer: Murata; Manufacturer PN: GRM188R71E184KA88D; Capacitance: 0.18uF; Tolerance: ±10%; Voltage Rating: 25V; Type: X7R
footprint chip_0603
pins: 1, 2

## CAP-00529
designator C?, comment 0.27uF
CAP, 0.27uF, ±10%, 16V, X7R, 0603; Part Number: CAP-00529; Manufacturer: Murata; Manufacturer PN: GRM188R71C274KA01D; Capacitance: 0.27uF; Tolerance: ±10%; Voltage Rating: 16V; Type: X7R
footprint chip_0603
pins: 1, 2

## CAP-00530
designator C?, comment 0.1uF
CAP, 0.1uF, ±10%, 100V, X7R, 0603; Part Number: CAP-00530; Manufacturer: Murata; Manufacturer PN: GRM188R72A104KA35J; Capacitance: 0.1uF; Tolerance: ±10%; Voltage Rating: 100V; Type: X7R
footprint chip_0603
pins: 1, 2

## CAP-00531
designator C?, comment 2.2uF
CAP, 2.2uF, ±10%, 10V, X7R, 0603; Part Number: CAP-00531; Manufacturer: Murata; Manufacturer PN: GRM188R71A225KE15J; Capacitance: 2.2uF; Tolerance: ±10%; Voltage Rating: 10V; Type: X7R
footprint chip_0603
pins: 1, 2

## CAP-00532
designator C?, comment 0.22uF
CAP, 0.22uF, ±10%, 25V, X7R, 0603; Part Number: CAP-00532; Manufacturer: Murata; Manufacturer PN: GRM188R71E224KA88J; Capacitance: 0.22uF; Tolerance: ±10%; Voltage Rating: 25V; Type: X7R
footprint chip_0603
pins: 1, 2

## CAP-00533
designator C?, comment 0.15uF
CAP, 0.15uF, ±10%, 25V, X7R, 0603; Part Number: CAP-00533; Manufacturer: Murata; Manufacturer PN: GRM188R71E154KA01J; Capacitance: 0.15uF; Tolerance: ±10%; Voltage Rating: 25V; Type: X7R
footprint chip_0603
pins: 1, 2

## CAP-00534
designator C?, comment 0.1uF
CAP, 0.1uF, ±10%, 100V, X7R, 0603; Part Number: CAP-00534; Manufacturer: Murata; Manufacturer PN: GRJ188R72A104KE11D; Capacitance: 0.1uF; Tolerance: ±10%; Voltage Rating: 100V; Type: X7R; Cost: $0.19
footprint chip_0603
pins: 1, 2

## CAP-00535
designator C?, comment 22pF
CAP, 22pF, ±2%, 250V, C0G, 0603; Part Number: CAP-00535; Manufacturer: Murata; Manufacturer PN: GQM1875C2E220GB12D; Capacitance: 22pF; Tolerance: ±2%; Voltage Rating: 250V; Type: C0G; Cost: $0.88
footprint chip_0603
pins: 1, 2

## CAP-00536
designator C?, comment 2.2uF
CAP, 2.2uF, ±20%, 100V, X7R, 0603; Part Number: CAP-00536; Manufacturer: TDK; Manufacturer PN: C3225X7R2A225M230AB; Capacitance: 2.2uF; Tolerance: ±20%; Voltage Rating: 100V; Type: X7R; Cost: $0.88
footprint chip_1210
pins: 1, 2

## CAP-00537
designator C?, comment 22uF
CAP, 22uF, ±10%, 6.3V, X7R, 0805; Part Number: CAP-00537; Capacitance: 22uF; Tolerance: ±10%; Voltage Rating: 6.3V; Type: X7R
footprint chip_0805
pins: 1, 2

## CAP-00538
designator C?, comment 6pF
CAP, 6pF, ±10%, 50V, C0G, 0603; Part Number: CAP-00538; Capacitance: 6pF; Tolerance: ±10%; Voltage Rating: 50V; Type: C0G
footprint chip_0603
pins: 1, 2

## CAP-00539
designator C?, comment 10uF
CAP, 10uF, ±10%, 25V, X7R, 1206; Part Number: CAP-00539; Manufacturer: Samsung; Manufacturer PN: CL31B106KAHNNNE; Capacitance: 10uF; Tolerance: ±10%; Voltage Rating: 25V; Type: X7R; Distributor Link: https://www.digikey.com/en/products/detail/samsung-electro-mechanics/CL31B106KAHNNNE/3887462
footprint chip_1206
pins: 1, 2

## CAP-00540
designator C?, comment 0.1uF
CAP, 0.1uF, ±10%, 630V, X7R, 1808; Part Number: CAP-00540; Manufacturer: KEMET; Manufacturer PN: C1808C104KBRACTU; Capacitance: 0.1uF; Tolerance: ±10%; Voltage Rating: 630V; Type: X7R
footprint chip_1808
pins: 1, 2

## CAP-00541
designator C?, comment 220uF
CAP, 220uF, ±20%, 350V, Al, Radial/Can, 7.5mm; Part Number: CAP-00541; Manufacturer: Nichicon; Manufacturer PN: UCY2V221MHD; Capacitance: 220uF; Tolerance: ±20%; Voltage Rating: 350V; Type: Al
footprint can_7.5_18.0
pins: 1, 2

## CAP-00542
designator C?, comment 0.1uF
CAP, 0.1uF, ±10%, 16V, X7R, 0603; Part Number: CAP-00542; Manufacturer: Murata; Capacitance: 0.1uF; Tolerance: ±10%; Voltage Rating: 16V; Type: X7R
footprint chip_0603
pins: 1, 2

## CAP-00543
designator C?, comment 10000pF
CAP, 10000pF, ±10%, 16V, X7R, 0603; Part Number: CAP-00543; Capacitance: 10000pF; Tolerance: ±10%; Voltage Rating: 16V; Type: X7R
footprint chip_0603
pins: 1, 2

## CAP-00544
designator C?, comment 0.47uF
CAP, 0.47uF, ±20%, 1.5kV, Film Class Y2; Part Number: CAP-00544; Manufacturer: TDK; Manufacturer PN: B32024A3474M000; Capacitance: 0.47uF; Tolerance: ±20%; Voltage Rating: 1.5kV; Type: Film Class Y2; Cost: $4.02
footprint TDK_B3202
pins: 1, 2

## CAP-00545
designator C?, comment 1uF
CAP, 1uF, ±10%, 400V, Film; Part Number: CAP-00545; Manufacturer: Kemet; Manufacturer PN: R60MI41005030K; Capacitance: 1uF; Tolerance: ±10%; Voltage Rating: 400V; Type: Film; Cost: $0.96
footprint KEMET_R60MI41005030K
pins: 1, 2

## CAP-00546
designator C?, comment 0.47uF
CAP, 0.47uF, ±10%, 305V, Film Class X; Part Number: CAP-00546; Manufacturer: TDK; Manufacturer PN: B32922C3474K000; Capacitance: 0.47uF; Tolerance: ±10%; Voltage Rating: 305V; Type: Film Class X; Cost: $0.67
footprint TDK_B32922C3474K000
pins: 1, 2

## CAP-00547
designator C?, comment 47uF
CAP, 47uF, ±10%, 20V, Tantalum; Part Number: CAP-00547; Manufacturer: AVX; Manufacturer PN: TAJD476K020RNJ; Capacitance: 47uF; Tolerance: ±10%; Voltage Rating: 20V; Type: Tantalum; Cost: $0.83
footprint chip_2917_AVX_TAJD
pins: 1, 2

## CAP-00548
designator C?, comment 470uF
CAP, 470uF, ±20%, 450V, Al; Part Number: CAP-00548; Manufacturer: Nippon Chemicon; Manufacturer PN: ESMQ451VSN471MR45S; Capacitance: 470uF; Tolerance: ±20%; Voltage Rating: 450V; Type: Al; Cost: $5.78
footprint can_10_30
pins: 1, 2

## CAP-00549
designator C?, comment 0.056uF
CAP, 0.056uF, ±10%, 50V, X7R, 0603; Part Number: CAP-00549; Capacitance: 0.056uF; Tolerance: ±10%; Voltage Rating: 50V; Type: X7R
footprint chip_0603
pins: 1, 2

## CAP-00550
designator C?, comment 100uF
CAP, 100uF, ±10%, 16V, Tantalum, 2917; Part Number: CAP-00550; Manufacturer: AVX; Manufacturer PN: TAJD107K016RNJ; Capacitance: 100uF; Tolerance: ±10%; Voltage Rating: 16V; Type: Tantalum; Cost: $0.94
footprint chip_2917_AVX_TAJD
pins: 1, 2

## CAP-00551
designator C?, comment 100uF
CAP, 100uF, ±20%, 6.3V, X5R, 1206; Part Number: CAP-00551; Manufacturer: Samsung Electro-Mechanics; Manufacturer PN: CL31A107MQHNNNE; Capacitance: 100uF; Tolerance: ±20%; Voltage Rating: 6.3V; Type: X5R; Cost: $0.64
footprint chip_1206
pins: 1, 2

## CAP-00552
designator C?, comment 47uF
CAP, 47uF, ±10%, 35V, Tantalum, 2917; Part Number: CAP-00552; Manufacturer: KEMET; Manufacturer PN: T495X476K035ATE300; Capacitance: 47uF; Tolerance: ±10%; Voltage Rating: 35V; Type: Tantalum; Cost: $2.41
footprint chip_2917
pins: 1, 2

## CAP-00553
designator C?, comment 0.1uF
CAP, 0.1uF, ±10%, 1kV, X7R, Radial 0.4inch; Part Number: CAP-00553; Manufacturer: Glennan Circuits Lab; Capacitance: 0.1uF; Tolerance: ±10%; Voltage Rating: 1kV; Type: X7R
footprint CAP_RADIAL_0.4
pins: 1, 2

## CAP-00554
designator C?, comment 10uF
CAP, 10uF, ±10%, 63V, X7R, 1210; Part Number: CAP-00554; Manufacturer: Samsung Electro-Mechanics; Manufacturer PN: CL32B106KMVNNWE; Capacitance: 10uF; Tolerance: ±10%; Voltage Rating: 63V; Type: X7R; Cost: $0.81
footprint chip_1210
pins: 1, 2

## CAP-00555
designator C?, comment 220uF
CAP, 220uF, ±10%, 10V, Tantalum, 2917; Part Number: CAP-00555; Manufacturer: KEMET; Manufacturer PN: T495D227K010ATE125; Capacitance: 220uF; Tolerance: ±10%; Voltage Rating: 10V; Type: Tantalum; Cost: $2.01
footprint chip_2917_KEMET_T495
pins: 1, 2

## CAP-00556
designator C?, comment 1000pF
CAP, 1000pF, ±10%, 2kV, X7R, 1808; Part Number: CAP-00556; Manufacturer: KEMET; Manufacturer PN: C1808C102KGRACTU; Capacitance: 1000pF; Tolerance: ±10%; Voltage Rating: 2kV; Type: X7R; Cost: $0.36
footprint chip_1808
pins: 1, 2

## CAP-00557
designator C?, comment 47uF
CAP, 47uF, ±20%, 6.3V, X7R, 1210; Part Number: CAP-00557; Manufacturer: KEMET; Manufacturer PN: C1210C476M9RACTU; Capacitance: 47uF; Tolerance: ±20%; Voltage Rating: 6.3V; Type: X7R; Cost: $1.08
footprint chip_1210
pins: 1, 2

## CAP-00558
designator C?, comment 470uF
CAP, 470uF, ±20%, 25V, Al, SMD, 7000hrs at 105°C; Part Number: CAP-00558; Manufacturer: Nichicon; Manufacturer PN: UCW1E471MNL1GS; Capacitance: 470uF; Tolerance: ±20%; Voltage Rating: 25V; Type: Al; Cost: $0.70
footprint CAP_SMD_10x10_0
pins: 1, 2

## CAP-00559
designator C?, comment 470uF
CAP, 470uF, ±20%, 35V, Al, 6000hrs at 105°C; Part Number: CAP-00559; Manufacturer: Nichicon; Manufacturer PN: UHV1V471MPD; Capacitance: 470uF; Tolerance: ±20%; Voltage Rating: 35V; Type: Al; Cost: $0.76
footprint CP_RADIAL_D10.0_P5.0_H17.5
pins: 1, 2

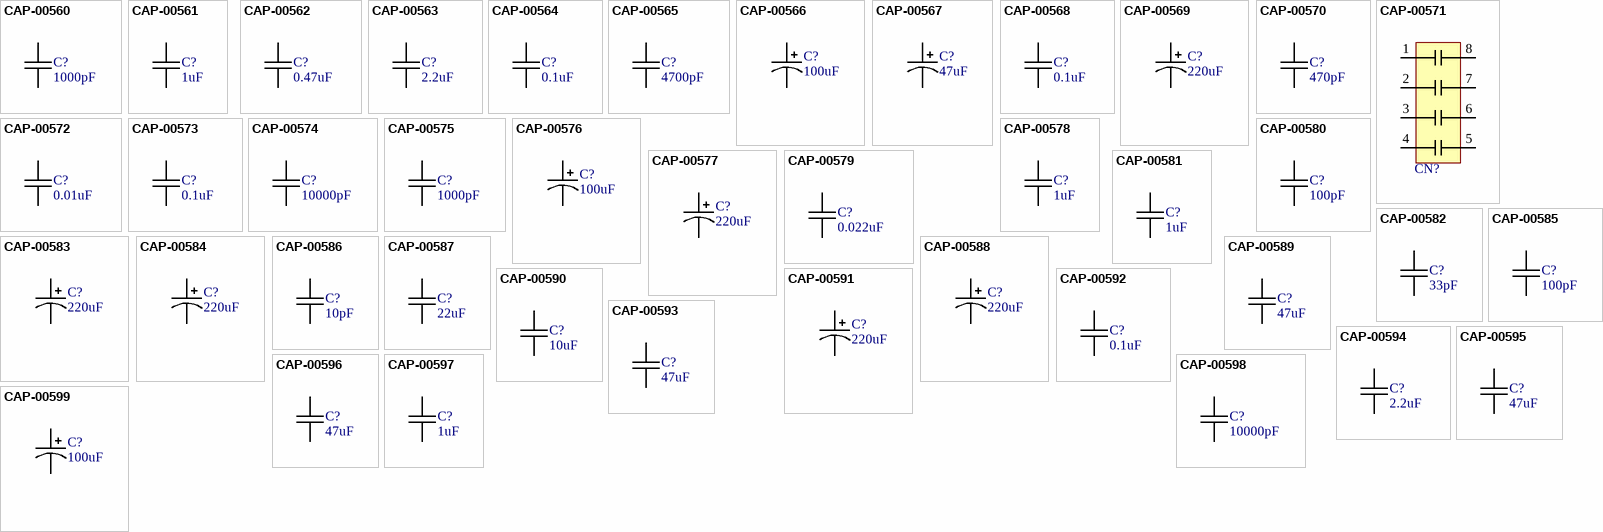
[diagram p14: symbols CAP-00560 to CAP-00599]

## CAP-00560
designator C?, comment 1000pF
CAP, 1000pF, ±10%, 630V, X7R, 1206; Part Number: CAP-00560; Manufacturer: Yageo; Manufacturer PN: CC1206KKX7RZBB102; Capacitance: 1000pF; Tolerance: ±10%; Voltage Rating: 630V; Type: X7R; Cost: $0.23
footprint chip_1206
pins: 1, 2

## CAP-00561
designator C?, comment 1uF
CAP, 1uF, ±10%, 100V, X7R, 1206; Part Number: CAP-00561; Manufacturer: KEMET; Manufacturer PN: C1206C105K1RACTU; Capacitance: 1uF; Tolerance: ±10%; Voltage Rating: 100V; Type: X7R; Cost: $0.55
footprint chip_1206
pins: 1, 2

## CAP-00562
designator C?, comment 0.47uF
CAP, 0.47uF, ±10%, 305V, Film X2; Part Number: CAP-00562; Manufacturer: TDK; Manufacturer PN: B32922C3474K189; Type: Film X2; Capacitance: 0.47uF; Tolerance: ±10%; Voltage Rating: 305V; Cost: $0.98
footprint TDK_B32922C3474K000
pins: 1, 2

## CAP-00563
designator C?, comment 2.2uF
CAP, 2.2uF, ±10%, 50V, X7R, 1206; Part Number: CAP-00563; Manufacturer: KEMET; Manufacturer PN: C1206C225K5RACTU; Capacitance: 2.2uF; Tolerance: ±10%; Voltage Rating: 50V; Type: X7R; Cost: $0.33
footprint chip_1206
pins: 1, 2

## CAP-00564
designator C?, comment 0.1uF
CAP, 0.1uF, ±20%, 305VAC, Film X2; Part Number: CAP-00564; Manufacturer: TDK; Manufacturer PN: B32921C3104M000; Type: Film X2; Capacitance: 0.1uF; Tolerance: ±20%; Voltage Rating: 305VAC; Cost: $0.41
footprint TDK_B32921
pins: 1, 2

## CAP-00565
designator C?, comment 4700pF
CAP, 4700pF, ±20%, 300VAC, Film Y2; Part Number: CAP-00565; Manufacturer: KEMET; Manufacturer PN: PHE850EA4470MA03R17; Type: Film Y2; Capacitance: 4700pF; Tolerance: ±20%; Voltage Rating: 300VAC; Cost: $0.50
footprint KEMET_PHE850_10mm
pins: 1, 2

## CAP-00566
designator C?, comment 100uF
CAP, 100uF, ±20%, 63V, Al, Radial/Can 5mm; Part Number: CAP-00566; Manufacturer: Nichicon; Manufacturer PN: URS1J101MPD1TD; Capacitance: 100uF; Tolerance: ±20%; Voltage Rating: 63V; Type: Al; Cost: $0.61
footprint CP_RADIAL_D10.0_P5.0_H10.5
pins: 1, 2

## CAP-00567
designator C?, comment 47uF
CAP, 47uF, ±20%, 100V, Al, SMD; Part Number: CAP-00567; Manufacturer: Nichicon; Manufacturer PN: UUX2A470MNL1GS; Capacitance: 47uF; Tolerance: ±20%; Voltage Rating: 100V; Type: Al; Cost: $0.74
footprint CP_NICHICON_UUX_10x10
pins: 1, 2

## CAP-00568
designator C?, comment 0.1uF
CAP, 0.1uF, ±5%, 100V, C0G, 1206; Part Number: CAP-00568; Manufacturer: Murata; Manufacturer PN: GRM31C5C2A104JA01L; Capacitance: 0.1uF; Tolerance: ±5%; Voltage Rating: 100V; Type: C0G; Cost: $0.72
footprint chip_1206
pins: 1, 2

## CAP-00569
designator C?, comment 220uF
CAP, 220uF, ±20%, 160V, Al, Radial/Can; Part Number: CAP-00569; Manufacturer: Nichicon; Manufacturer PN: UCS2C221MHD1TN; Capacitance: 220uF; Tolerance: ±20%; Voltage Rating: 160V; Type: Al; Cost: $1.74
footprint CP_RADIAL_D16.0_P7.5_H27.0
pins: 1, 2

## CAP-00570
designator C?, comment 470pF
CAP, 470pF, ±10%, 3kV, X7R, 1812; Part Number: CAP-00570; Manufacturer: AVX; Manufacturer PN: 1812HC471KAT1A; Capacitance: 470pF; Tolerance: ±10%; Voltage Rating: 3kV; Type: X7R; Cost: $1.08
footprint chip_1812
pins: 1, 2

## CAP-00571
designator CN?, comment cap_arr_4_np  (value not drawn)
CAP ARR x4, 0.1uF, ±20%, 16V, X7R, 1812; Part Number: CAP-00571; Manufacturer: KEMET; Manufacturer PN: CA064C104M4RAC7800; Capacitance: 0.1uF; Tolerance: ±20%; Voltage Rating: 16V; Type: X7R; Cost: $0.46
footprint CHIP_CA064_KEMET
pins: 1, 2, 3, 4, 5, 6, 7, 8

## CAP-00572
designator C?, comment 0.01uF
CAP, 0.01uF, ±20%, 305VAC, Film X2; Part Number: CAP-00572; Manufacturer: TDK; Manufacturer PN: B32921C3103M000; Type: Film X2; Capacitance: 0.01uF; Tolerance: ±20%; Voltage Rating: 305VAC; Cost: $0.41
footprint TDK_B32921
pins: 1, 2